# EAGLE library part BTS-025-XX-X-D-A (library samtec)
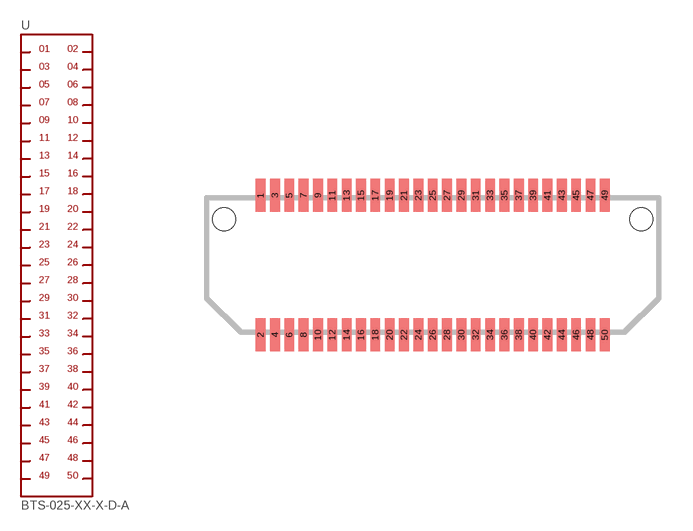
[diagram p23: symbol with the pads of BTS-025-XX-X-D-A; footprint BTS-025-XX-X-D-A]

Designator prefix -

## BTS-025-XX-X-D-A  [BTS-025-XX-X-D-A]
1  1
2  2
3  3
4  4
5  5
6  6
7  7
8  8
9  9
10  10
11  11
12  12
13  13
14  14
15  15
16  16
17  17
18  18
19  19
20  20
21  21
22  22
23  23
24  24
25  25
26  26
27  27
28  28
29  29
30  30
31  31
32  32
33  33
34  34
35  35
36  36
37  37
38  38
39  39
40  40
41  41
42  42
43  43
44  44
45  45
46  46
47  47
48  48
49  49
50  50

## Footprint BTS-025-XX-X-D-A (pad centres in mm)
PCB Matrix Packages
smd 0.432 x 1.448: 1 -7.62,3.086; 2 -7.62,-3.086; 3 -6.985,3.086; 4 -6.985,-3.086; 5 -6.35,3.086; 6 -6.35,-3.086; 7 -5.715,3.086; 8 -5.715,-3.086; 9 -5.08,3.086; 10 -5.08,-3.086; 11 -4.445,3.086; 12 -4.445,-3.086; 13 -3.81,3.086; 14 -3.81,-3.086; 15 -3.175,3.086; 16 -3.175,-3.086; 17 -2.54,3.086; 18 -2.54,-3.086; 19 -1.905,3.086; 20 -1.905,-3.086; 21 -1.27,3.086; 22 -1.27,-3.086; 23 -0.635,3.086; 24 -0.635,-3.086; 25 0,3.086; 26 0,-3.086; 27 0.635,3.086; 28 0.635,-3.086; 29 1.27,3.086; 30 1.27,-3.086; 31 1.905,3.086; 32 1.905,-3.086; 33 2.54,3.086; 34 2.54,-3.086; 35 3.175,3.086; 36 3.175,-3.086; 37 3.81,3.086; 38 3.81,-3.086; 39 4.445,3.086; 40 4.445,-3.086; 41 5.08,3.086; 42 5.08,-3.086; 43 5.715,3.086; 44 5.715,-3.086; 45 6.35,3.086; 46 6.35,-3.086; 47 6.985,3.086; 48 6.985,-3.086; 49 7.62,3.086; 50 7.62,-3.086
hole 1.016 at -9.239,2.032
hole 1.016 at 9.239,2.032